# Altium integrated library Zarlink Comm Framer Circuit.IntLib: 6 symbols
Pins are listed as number, name and electrical type; pins without a type are passive.

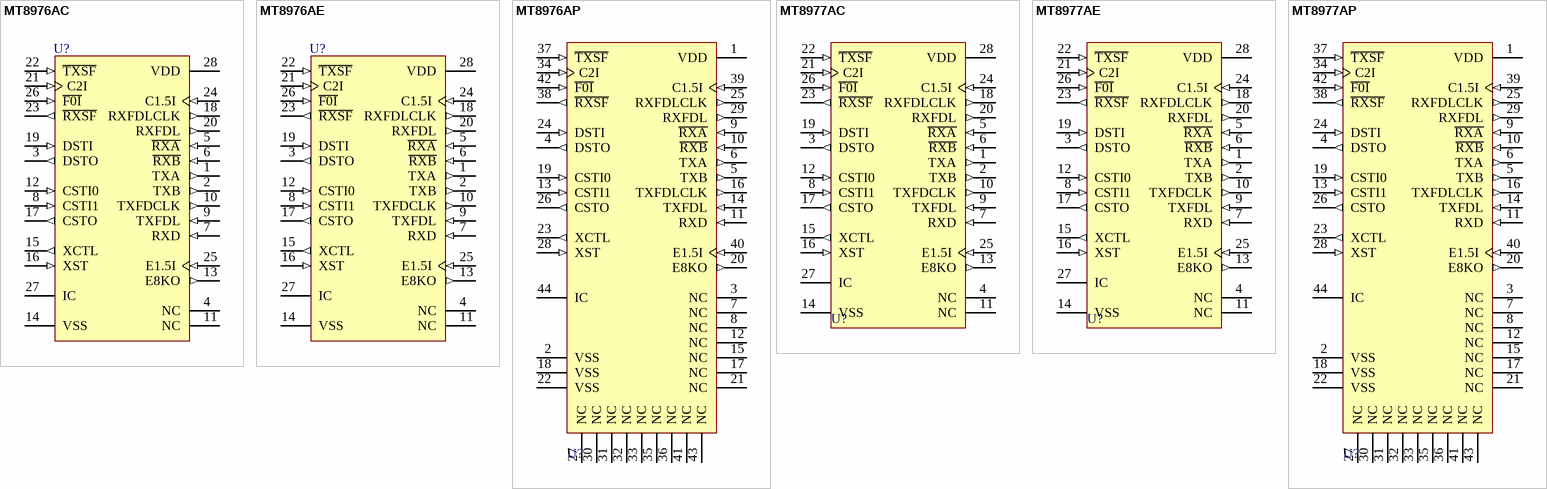
[diagram p0: symbols MT8976AC to MT8977AP]

## MT8976AC
designator U?
T1/ESF Framer Circuit; Note: Tie pin 27 to VSS for normal operation; Published: 8-Jun-2000; LatestRevisionDate: 17-Jul-2002; LatestRevisionNote: Re-released for DXP Platform.; DatasheetVersion: Issue 9 May 1995; PackageVersion: 1995; PackageReference: CDIP28; Publisher: Altium Limited; PackageDescription: DIP; 28 Leads; Row Spacing 15.24 mm; Pitch 2.54 mm; ComponentLink1Description: Manufacturer Link; ComponentLink1URL: http://products.zarlink.com; ComponentLink2Description: Datasheet; ComponentLink2URL: http://assets.zarlink.com/DS/zarlink_MT8976_JUL_05.pdf
footprint CDIP28 (DIP; 28 Leads; Row Spacing 15.24 mm; Pitch 2.54 mm)
pins: 1 TXA (out), 2 TXB (out), 3 DSTO (out), 4 NC, 5 ~{RXA} (in), 6 ~{RXB} (in), 7 RXD (in), 8 CSTI1 (in), 9 TXFDL (in), 10 TXFDCLK (out), 11 NC, 12 CSTI0 (in), 13 E8KO (out), 14 VSS (power), 15 XCTL (out), 16 XST (in), 17 CSTO (out), 18 RXFDLCLK (out), 19 DSTI (in), 20 RXFDL (out), 21 C2I (in), 22 ~{TXSF} (in), 23 ~{RXSF} (out), 24 C1.5I (in), 25 E1.5I (in), 26 ~{F0I} (in), 27 IC, 28 VDD (power)

## MT8976AE
designator U?
T1/ESF Framer Circuit; Note: Tie pin 27 to VSS for normal operation.; Published: 8-Jun-2000; LatestRevisionDate: 17-Jul-2002; LatestRevisionNote: Re-released for DXP Platform.; DatasheetVersion: Issue 10 March 1997; PackageVersion: 1997; PackageReference: PDIP28; Publisher: Altium Limited; PackageDescription: DIP; 28 Leads; Row Spacing 15.24 mm; Pitch 2.54 mm; Code_JEDEC: MS-011-AB; ComponentLink1Description: Manufacturer Link; ComponentLink1URL: http://products.zarlink.com; ComponentLink2Description: Datasheet; ComponentLink2URL: http://assets.zarlink.com/DS/zarlink_MT8976_JUL_05.pdf
footprint PDIP28 (DIP; 28 Leads; Row Spacing 15.24 mm; Pitch 2.54 mm)
pins: 1 TXA (out), 2 TXB (out), 3 DSTO (out), 4 NC, 5 ~{RXA} (in), 6 ~{RXB} (in), 7 RXD (in), 8 CSTI1 (in), 9 TXFDL (in), 10 TXFDCLK (out), 11 NC, 12 CSTI0 (in), 13 E8KO (out), 14 VSS (power), 15 XCTL (out), 16 XST (in), 17 CSTO (out), 18 RXFDLCLK (out), 19 DSTI (in), 20 RXFDL (out), 21 C2I (in), 22 ~{TXSF} (in), 23 ~{RXSF} (out), 24 C1.5I (in), 25 E1.5I (in), 26 ~{F0I} (in), 27 IC, 28 VDD (power)

## MT8976AP
designator U?
T1/ESF Framer Circuit; Note: Tie pin 27 to VSS for normal operation.; Published: 8-Jun-2000; LatestRevisionDate: 13-Apr-2006; LatestRevisionNote: IPC-7351 Footprint Added.; DatasheetVersion: Issue 10 March 1997; PackageVersion: 1997; PackageReference: PLCC44; Publisher: Altium Limited; PackageDescription: 44-Pin Leaded Chip Carrier 1.27 mm Pitch; Code_IPC: PLCC-44; ComponentLink1Description: Manufacturer Link; ComponentLink1URL: http://products.zarlink.com; ComponentLink2Description: Datasheet; ComponentLink2URL: http://assets.zarlink.com/DS/zarlink_MT8976_JUL_05.pdf
footprint PLCC44_N (Leaded Chip Carrier, 44-Leads, Body 16.6x16.6mm, Pitch 1.27mm, IPC Medium Density)
footprint PLCC44_L (Leaded Chip Carrier, 44-Leads, Body 16.6x16.6mm, Pitch 1.27mm, IPC High Density)
footprint PLCC44_M (Leaded Chip Carrier, 44-Leads, Body 16.6x16.6mm, Pitch 1.27mm, IPC Low Density)
pins: 1 VDD (power), 2 VSS (power), 3 NC, 4 DSTO (out), 5 TXB (out), 6 TXA (out), 7 NC, 8 NC, 9 ~{RXA} (in), 10 ~{RXB} (in), 11 RXD (in), 12 NC, 13 CSTI1 (in), 14 TXFDL (in), 15 NC, 16 TXFDLCLK (out), 17 NC, 18 VSS (power), 19 CSTI0 (in), 20 E8KO (out), 21 NC, 22 VSS (power), 23 XCTL (out), 24 DSTI (in), 25 RXFDLCLK (out), 26 CSTO (out), 27 NC, 28 XST (in), 29 RXFDL (out), 30 NC, 31 NC, 32 NC, 33 NC, 34 C2I (in), 35 NC, 36 NC, 37 ~{TXSF} (in), 38 ~{RXSF} (out), 39 C1.5I (in), 40 E1.5I (in), 41 NC, 42 ~{F0I} (in), 43 NC, 44 IC

## MT8977AC
designator U?
T1/ESF Framer Circuit (ACCUNET T1.5); Note: Tie pin 27 to VSS for normal operation; Published: 8-Jun-2000; LatestRevisionDate: 17-Jul-2002; LatestRevisionNote: Re-released for DXP Platform.; DatasheetVersion: Issue 2 May 1995; PackageVersion: 1995; PackageReference: CDIP28; Publisher: Altium Limited; PackageDescription: DIP; 28 Leads; Row Spacing 15.24 mm; Pitch 2.54 mm; ComponentLink1Description: Manufacturer Link; ComponentLink1URL: http://products.zarlink.com; ComponentLink2Description: Datasheet; ComponentLink2URL: http://assets.zarlink.com/DS/zarlink_MT8977_FEB_05.pdf
footprint CDIP28 (DIP; 28 Leads; Row Spacing 15.24 mm; Pitch 2.54 mm)
pins: 1 TXA (out), 2 TXB (out), 3 DSTO (out), 4 NC, 5 ~{RXA} (in), 6 ~{RXB} (in), 7 RXD (in), 8 CSTI1 (in), 9 TXFDL (in), 10 TXFDCLK (out), 11 NC, 12 CSTI0 (in), 13 E8KO (out), 14 VSS (power), 15 XCTL (out), 16 XST (in), 17 CSTO (out), 18 RXFDLCLK (out), 19 DSTI (in), 20 RXFDL (out), 21 C2I (in), 22 ~{TXSF} (in), 23 ~{RXSF} (out), 24 C1.5I (in), 25 E1.5I (in), 26 ~{F0I} (in), 27 IC, 28 VDD (power)

## MT8977AE
designator U?
T1/ESF Framer Circuit(Accunet T1.5); Note: Tie pin 27 to VSS for normal operation.; Published: 8-Jun-2000; LatestRevisionDate: 17-Jul-2002; LatestRevisionNote: Re-released for DXP Platform.; DatasheetVersion: Issue 3 March 1997; PackageVersion: 1997; PackageReference: PDIP28; Publisher: Altium Limited; PackageDescription: DIP; 28 Leads; Row Spacing 15.24 mm; Pitch 2.54 mm; Code_JEDEC: MS-011-AB; ComponentLink1Description: Manufacturer Link; ComponentLink1URL: http://products.zarlink.com; ComponentLink2Description: Datasheet; ComponentLink2URL: http://assets.zarlink.com/DS/zarlink_MT8977_FEB_05.pdf
footprint PDIP28 (DIP; 28 Leads; Row Spacing 15.24 mm; Pitch 2.54 mm)
pins: 1 TXA (out), 2 TXB (out), 3 DSTO (out), 4 NC, 5 ~{RXA} (in), 6 ~{RXB} (in), 7 RXD (in), 8 CSTI1 (in), 9 TXFDL (in), 10 TXFDCLK (out), 11 NC, 12 CSTI0 (in), 13 E8KO (out), 14 VSS (power), 15 XCTL (out), 16 XST (in), 17 CSTO (out), 18 RXFDLCLK (out), 19 DSTI (in), 20 RXFDL (out), 21 C2I (in), 22 ~{TXSF} (in), 23 ~{RXSF} (out), 24 C1.5I (in), 25 E1.5I (in), 26 ~{F0I} (in), 27 IC, 28 VDD (power)

## MT8977AP
designator U?
T1/ESF Framer Circuit(Accunet T1.5); Note: Tie pin 27 to VSS for normal operation.; Published: 8-Jun-2000; LatestRevisionDate: 13-Apr-2006; LatestRevisionNote: IPC-7351 Footprint Added.; DatasheetVersion: Issue 3 March 1997; PackageVersion: 1997; PackageReference: PLCC44; Publisher: Altium Limited; PackageDescription: 44-Pin Leaded Chip Carrier 1.27 mm Pitch; Code_IPC: PLCC-44; ComponentLink1Description: Manufacturer Link; ComponentLink1URL: http://products.zarlink.com; ComponentLink2Description: Datasheet; ComponentLink2URL: http://assets.zarlink.com/DS/zarlink_MT8977_FEB_05.pdf
footprint PLCC44_N (Leaded Chip Carrier, 44-Leads, Body 16.6x16.6mm, Pitch 1.27mm, IPC Medium Density)
footprint PLCC44_L (Leaded Chip Carrier, 44-Leads, Body 16.6x16.6mm, Pitch 1.27mm, IPC High Density)
footprint PLCC44_M (Leaded Chip Carrier, 44-Leads, Body 16.6x16.6mm, Pitch 1.27mm, IPC Low Density)
pins: 1 VDD (power), 2 VSS (power), 3 NC, 4 DSTO (out), 5 TXB (out), 6 TXA (out), 7 NC, 8 NC, 9 ~{RXA} (in), 10 ~{RXB} (in), 11 RXD (in), 12 NC, 13 CSTI1 (in), 14 TXFDL (in), 15 NC, 16 TXFDLCLK (out), 17 NC, 18 VSS (power), 19 CSTI0 (in), 20 E8KO (out), 21 NC, 22 VSS (power), 23 XCTL (out), 24 DSTI (in), 25 RXFDLCLK (out), 26 CSTO (out), 27 NC, 28 XST (in), 29 RXFDL (out), 30 NC, 31 NC, 32 NC, 33 NC, 34 C2I (in), 35 NC, 36 NC, 37 ~{TXSF} (in), 38 ~{RXSF} (out), 39 C1.5I (in), 40 E1.5I (in), 41 NC, 42 ~{F0I} (in), 43 NC, 44 IC